# EAGLE library part PCF85063ATL/1,118 (library pimoroni-ics)
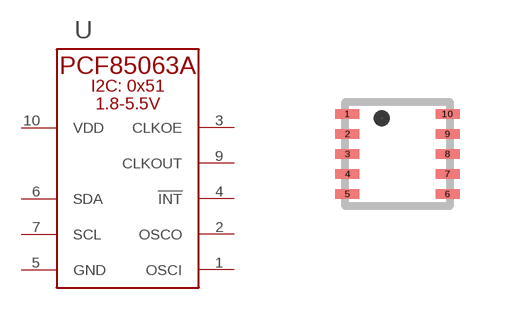
[diagram p140: symbol with the pads of DFN2626-10; footprint DFN2626-10]

Designator prefix U

## PCF85063ATL/1,1182626  [DFN2626-10]
1  OSCI
2  OSCO
3  CLKOE
4  !INT
5  GND
6  SDA
7  SCL
9  CLKOUT
10  VDD

## Footprint DFN2626-10 (pad centres in mm)
smd 0.6 x 0.24: 1 -1.25,1; 2 -1.25,0.5; 3 -1.25,0; 4 -1.25,-0.5; 5 -1.25,-1; 6 1.25,-1; 7 1.25,-0.5; 8 1.25,0; 9 1.25,0.5; 10 1.25,1